# EAGLE library part 691317710008 (library WR-TBL Pluggable Connector)
WR-TBL Serie 3177 - 5.00 mm Close Horizontal PCB Header with Flanges KIND PROPERTIES Pitch 5 mm MATERIAL PROPERTIES Insulator Material PA66 Insulator Flammability Rating UL94 V-0 Contact Material Brass Contact Plating Tin GENERAL INFORMATION Operating Temperature -40 up to +105 °C Compliance RoHS ELECTRICAL PROPERTIES IR cULus 20 A IR VDE 20 A Working Voltage [cULus] 300 V (AC) Working Voltage [VDE] 300 V (AC) Withstanding Voltage [cULus] 1600 V (AC) Withstanding Voltage [VDE] 2500 V (AC) Contact Resistance [cULus] 20 mΩ Contact Resistance [VDE] 20 mΩ CERTIFICATION cULus Approval E315414 VDE Approval 40023195 <https://www.we-online.com/catalog/media/o33269v209%20Family_WR-TBL_69131771000x.jpg> Details see: https://www.we-online.com/catalog/en/TBL_5_00_3177_CLOSE_HORIZONTAL_PCB_HEADER_W_FLANGES_69131771000X/ Updated by Ella Wu 2022-07-25 2022(C) Wurth Elektronik
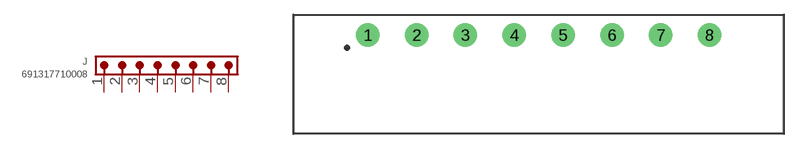
[diagram p214: symbol with the pads of 691317710008; footprint 691317710008]

Designator prefix J

## 691317710008 (DATASHEET-URL: https://www.we-online.com/redexpert/spec/691317710008?ae; IR-UL: 20A; IR-VDE: 20A; MOUNT: THT; PART-NUMBER: 691317710008; PINS: 8; PITCH: 5mm; TYPE: Horizontal; VALUE: 691317710008; WORKING-VOLTAGE-UL: 300V (AC); WORKING-VOLTAGE-VDE: 300V (AC))  [691317710008]
1  1  pas
2  2  pas
3  3  pas
4  4  pas
5  5  pas
6  6  pas
7  7  pas
8  8  pas

## Footprint 691317710008 (pad centres in mm)
WR-TBL Serie 3177 - 5.00 mm Close Horizontal PCB Header with Flanges Max Height = 8.5mm , Pitch 5mm , 8pins
drill 1.6: 1 -17.5,0; 2 -12.5,0; 3 -7.5,0; 4 -2.5,0; 5 2.5,0; 6 7.5,0; 7 12.5,0; 8 17.5,0